# Altium schematic symbol library Alarms - Buzzers - Sirens.SchLib: 1 symbol
Pins are listed as number, name and electrical type; pins without a type are passive.

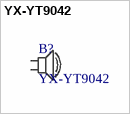
[diagram p0: symbol YX-YT9042]

## YX-YT9042
designator B?
BUZZER MAGNETIC WITH CIRCUIT 12V 2.9-KHZ THT /; Manufacturer: YXDZ; Input Type: DC; Voltage Range: 8-14V; Pitch: 5.00mm; Designed: Ferdi; Technology: Magnetic; Series: YT; Voltage Rated: 12V; Dimensions (mm): 9.00x4.20; ComponentLink1Description: DataSheet; ComponentLink1URL: https://cdn.ozdisan.com/ETicaret_Dosya/504755_7069579.pdf
footprint Buzzer 5mm (5mm)
pins: 1, 2